# EAGLE library part PINHEAD_2X07 (library pinhead)
14 Positions Header 0.1 inch
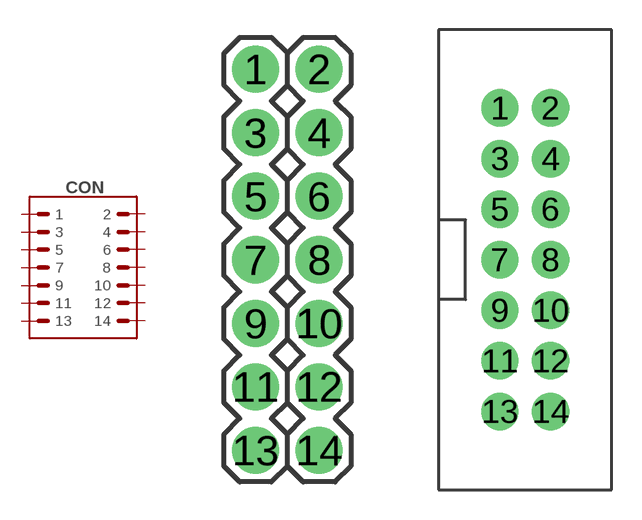
[diagram p19: symbol with the pads of 2X07-PTH-2.54; footprints 2X07-PTH-2.54, 2X07-PTH-2.54_SHROUDED]

Designator prefix CON

## PINHEAD_2X07-PTH (DIGIKEY#: 609-3491-ND; MANF: Amphenol FCI; MANF#: 67996-114HLF)  [2X07-PTH-2.54]
1  1  pas
2  2  pas
3  3  pas
4  4  pas
5  5  pas
6  6  pas
7  7  pas
8  8  pas
9  9  pas
10  10  pas
11  11  pas
12  12  pas
13  13  pas
14  14  pas

## PINHEAD_2X07-SHROUDED (DIGIKEY#: MHB14K-ND; MANF: 3M; MANF#: 2514-6002UB)  [2X07-PTH-2.54_SHROUDED]
Pads as for 2X07-PTH-2.54

## PINHEAD_2X07-SMD-MALE  [PINHEAD_2X07_SMD_MALE]
Pads as for 2X07-PTH-2.54

## Footprint 2X07-PTH-2.54 (pad centres in mm)
drill 1.016 pad 1.88: 1 -1.27,7.62; 2 1.27,7.62; 3 -1.27,5.08; 4 1.27,5.08; 5 -1.27,2.54; 6 1.27,2.54; 7 -1.27,0; 8 1.27,0; 9 -1.27,-2.54; 10 1.27,-2.54; 11 -1.27,-5.08; 12 1.27,-5.08; 13 -1.27,-7.62; 14 1.27,-7.62

## Footprint 2X07-PTH-2.54_SHROUDED (pad centres in mm)
http://multimedia.3m.com/mws/media/330367O/3mtm-100-in-4-wall-hdr-rohs-lp-straightra-hitemp-ts0770.pdf
drill 1.016 pad 1.88: 1 -1.27,7.62; 2 1.27,7.62; 3 -1.27,5.08; 4 1.27,5.08; 5 -1.27,2.54; 6 1.27,2.54; 7 -1.27,0; 8 1.27,0; 9 -1.27,-2.54; 10 1.27,-2.54; 11 -1.27,-5.08; 12 1.27,-5.08; 13 -1.27,-7.62; 14 1.27,-7.62

## Footprint PINHEAD_2X07_SMD_MALE (pad centres in mm)
smd 3.75 x 1: 1 -3.75,7.62; 2 3.75,7.62; 3 -3.75,5.08; 4 3.75,5.08; 5 -3.75,2.54; 6 3.75,2.54; 7 -3.75,0; 8 3.75,0; 9 -3.75,-2.54; 10 3.75,-2.54; 11 -3.75,-5.08; 12 3.75,-5.08; 13 -3.75,-7.62; 14 3.75,-7.62
hole 1.2 at 0,5
hole 1.2 at 0,-5